# EAGLE library part IMSG176 (library Custom)
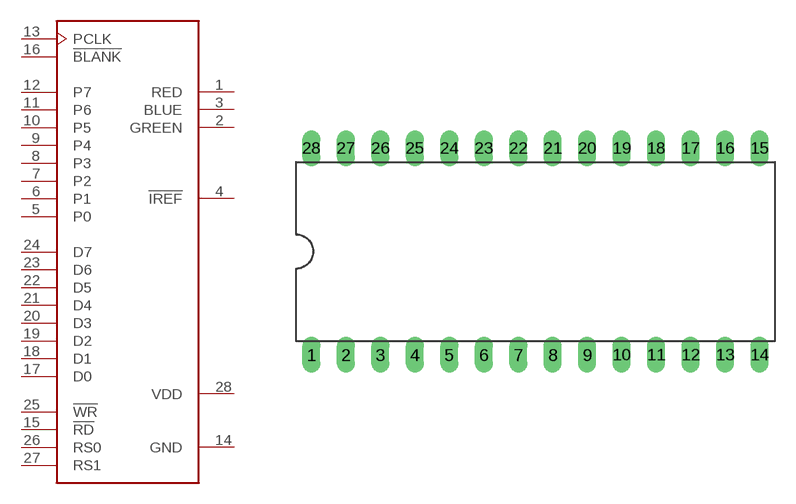
[diagram p32: symbol with the pads of DIL28-6; footprint DIL28-6]

Designator prefix -

## IMSG176DIL  [DIL28-6]
1  RED
2  GREEN
3  BLUE
4  !IREF
5  P0  in
6  P1  in
7  P2  in
8  P3  in
9  P4  in
10  P5  in
11  P6  in
12  P7  in
13  PCLK  in
14  GND
15  !RD
16  !BLANK
17  D0  out
18  D1  out
19  D2  out
20  D3  out
21  D4  out
22  D5  out
23  D6  out
24  D7  out
25  !WR
26  RS0
27  RS1
28  VDD

## Footprint DIL28-6 (pad centres in mm)
Dual In Line Package 0.6 inch
drill 0.813 long: 1 -16.51,-7.62; 2 -13.97,-7.62; 3 -11.43,-7.62; 4 -8.89,-7.62; 5 -6.35,-7.62; 6 -3.81,-7.62; 7 -1.27,-7.62; 8 1.27,-7.62; 9 3.81,-7.62; 10 6.35,-7.62; 11 8.89,-7.62; 12 11.43,-7.62; 13 13.97,-7.62; 14 16.51,-7.62; 15 16.51,7.62; 16 13.97,7.62; 17 11.43,7.62; 18 8.89,7.62; 19 6.35,7.62; 20 3.81,7.62; 21 1.27,7.62; 22 -1.27,7.62; 23 -3.81,7.62; 24 -6.35,7.62; 25 -8.89,7.62; 26 -11.43,7.62; 27 -13.97,7.62; 28 -16.51,7.62